# Altium schematic symbol library FAIRCHILD DUAL MOSFET N-CH SOT-23-6.Schlib: 1 symbol
Pins are listed as number, name and electrical type; pins without a type are passive.

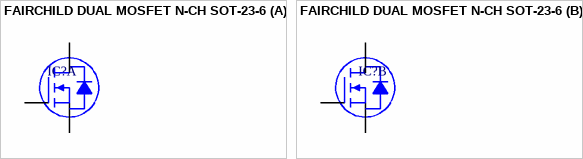
[diagram p0: symbol FAIRCHILD DUAL MOSFET N-CH SOT-23-6]

## FAIRCHILD DUAL MOSFET N-CH SOT-23-6
designator IC?
part A pins: 1 G1, 5 S1, 6 D1
part B pins: 2 S2, 3 G2, 4 D2